# Altium footprint library 6_to_14_Pin.PcbLib: 74 footprints (part 3 of 5)
Each footprint in its own frame and in the unit in brackets; x right, y up, seen from the top. Pads: shape width x height; smd on the part's side, far side on the other; paste and mask are expansions set on the pad; w line width, h text height; cw(c..) or ccw(c..) is an arc to the next point about the centre after c.
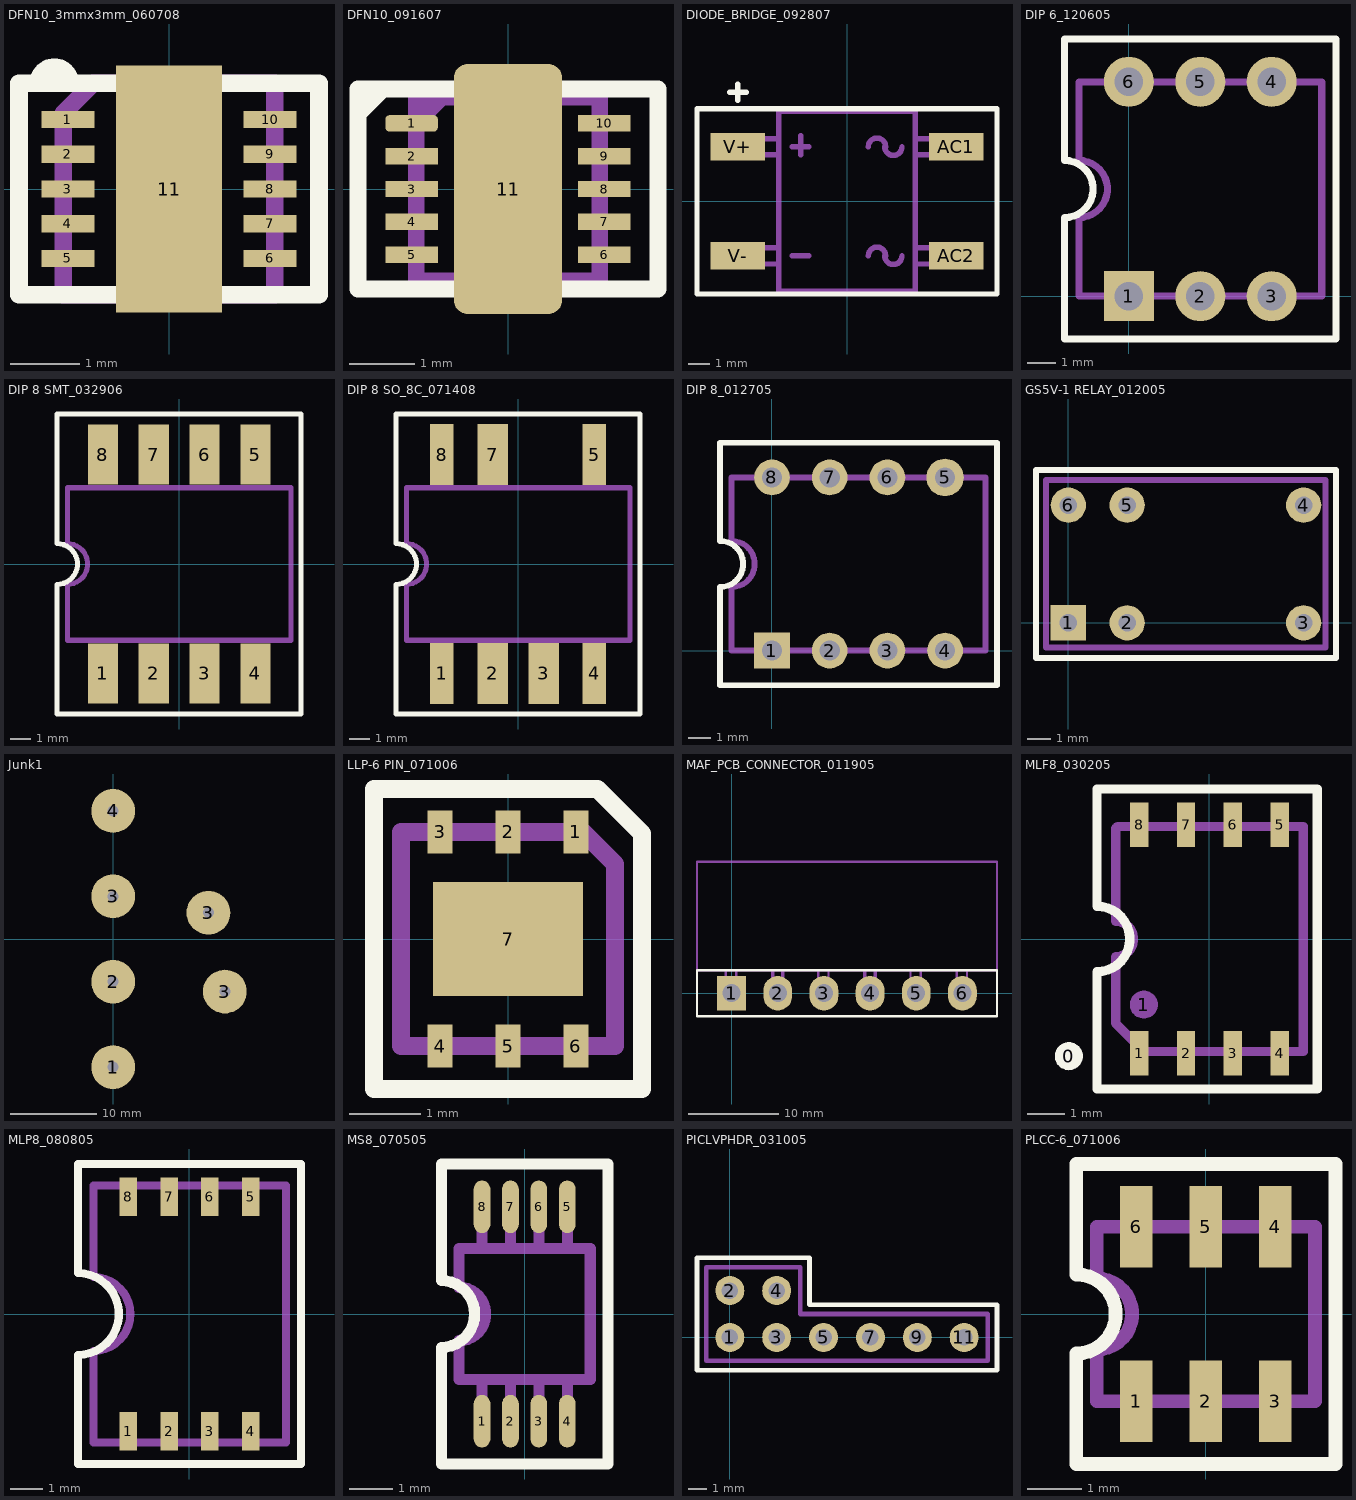
[diagram p2: the footprints below, top view; thin cyan lines are the x and y axes]

## DFN10_3mmx3mm_060708 [mm] "SMT FP"
height 0.762
pads (11):
  rect 0.762x0.25 smd mask+0.038: 1(-1.456,1) 2(-1.456,0.5) 3(-1.456,0) 4(-1.456,-0.5) 5(-1.456,-1) 6(1.456,-1) 7(1.456,-0.5) 8(1.456,0) 9(1.456,0.5) 10(1.456,1)
  rect 1.524x3.556 smd paste-0.559 mask-0.508: 11(0,0)
Top Overlay:
  lines w0.254: -1.88,1.524 cw(c-1.651,1.524) -1.422,1.524 ; -0.381,-1.524 -2.159,-1.524 -2.159,1.524 -0.381,1.524 ; 0.381,-1.524 2.159,-1.524 2.159,1.524 0.381,1.524
Top Solder:
  rectangle: -0.635,-1.295 0.66,1.27
  rectangle: -0.127,1.194 0.127,1.778
  rectangle: -0.127,-1.778 0.127,-1.168
Assembly Outline:
  lines w0.254: -1.524,-1.524 1.524,-1.524 1.524,1.524 -1.092,1.524 -1.524,1.092 -1.524,-1.524
Assembly Designator:
  text ".Designator" at -0.991,1.956 h1.02
Assembly Comment:
  text ".Comment" at -2.794,-2.921 h1.02

## DFN10_091607 [mm] "SMT"
height 0.001
pads (11):
  rrect50% 0.8x0.25 smd mask+0.051: 1(-1.47,1)
  rect 0.8x0.25 smd mask+0.051: 2(-1.47,0.5) 3(-1.47,0) 4(-1.47,-0.5) 5(-1.47,-1) 6(1.47,-1) 7(1.47,-0.5) 8(1.47,0) 9(1.47,0.5) 10(1.47,1)
  rrect25% 1.651x3.81 smd paste-0.203 mask+0.051: 11(0,0)
Top Overlay:
  lines w0.254: -2.286,1.143 -1.905,1.524 ; -2.286,-1.524 2.286,-1.524 2.286,1.524 -2.286,1.524 -2.286,-1.524
Assembly Outline:
  lines w0.254: -1.397,1.016 -1.016,1.397 ; -1.397,-1.397 1.397,-1.397 1.397,1.397 -1.397,1.397 -1.397,-1.397
Assembly Designator:
  text ".Designator" at -1.27,1.905 h1.02
Assembly Comment:
  text ".Comment" at -2.54,-2.794 h1.02

## DIODE_BRIDGE_092807 [mil] "SMT"
height 100
pads (4):
  rect 100x50 smd: AC1(200,100) AC2(200,-100) V+(-200,100) V-(-200,-100)
Top Overlay:
  lines w10: -215,200 -185,200 ; -200,185 -200,215 ; -275,-170 275,-170 275,170 -275,170 -275,-170
Assembly Outline:
  lines w10: -125,-115 -215,-115 -215,-85 -125,-85 ; -125,85 -215,85 -215,115 -125,115 ; -100,-100 -70,-100 ; -100,100 -70,100 ; -85,85 -85,120 ; 39.19,-100 cw(c55,-100) 70.81,-100 ; 39.19,100 cw(c55,100) 70.81,100 ; 69.19,-100 ccw(c85,-100) 100.81,-100 ; 69.19,100 ccw(c85,100) 100.81,100 ; 125,-115 215,-115 215,-85 125,-85 ; 125,85 215,85 215,115 125,115 ; -125,-165 125,-165 125,165 -125,165 -125,-165
Assembly Designator:
  text ".Designator" at -60,-15 h40
Assembly Comment:
  text ".Comment" at -165,-220 h40

## DIP 6_120605 [mil] "TH"
height 160
pads (6):
  rect 70x70 hole 40: 1(0,0)
  round 70 hole 40: 2(100,0) 3(200,0) 4(200,300) 5(100,300) 6(0,300)
Top Overlay:
  lines w10: -90,-60 -90,110 ccw(c-90,150) -90,190 -90,360 0,360 290,360 290,-60 -90,-60
Assembly Outline:
  lines w10: -70,0 -70,110 ccw(c-70,150) -70,190 -70,300 270,300 270,0 -70,0
Assembly Designator:
  text ".Designator" at 54.13,134.84 h40
Assembly Comment:
  text ".Comment" at -36.42,62.01 h40

## DIP 8 SMT_032906 [mm] "TH"
height 3.6
pads (8):
  rect 1.5x3 smd: 1(-3.81,-5.461) 2(-1.27,-5.461) 3(1.27,-5.461) 4(3.81,-5.461) 5(3.81,5.461) 6(1.27,5.461) 7(-1.27,5.461) 8(-3.81,5.461)
Top Overlay:
  lines w0.254: -6.096,-7.493 -6.096,-5.334 -6.096,-1.016 ccw(c-6.096,0) -6.096,1.016 -6.096,5.334 -6.096,7.493 6.096,7.493 6.096,5.334 6.096,-5.334 6.096,-7.493 -6.096,-7.493
Assembly Outline:
  lines w0.254: -5.588,-3.81 3.81,-3.81 5.588,-3.81 5.588,3.81 3.81,3.81 -5.588,3.81 -5.588,1.016 cw(c-5.588,0) -5.588,-1.016 -5.588,-3.81
Assembly Designator:
  text ".Designator" at -2.184,-0.533 h1.02
Assembly Comment:
  text ".Comment" at -4.801,-2.489 h1.02

## DIP 8 SO_8C_071408 [mil] "SMT"
height 145
pads (7):
  rect 46x120 smd: 1(-150,-215) 4(150,-215) 5(150,215) 8(-150,215)
  rect 60x120 smd: 2(-50,-215) 3(50,-215) 7(-50,215)
Top Overlay:
  lines w10: -240,-295 -240,-210 -240,-40 ccw(c-240,0) -240,40 -240,210 -240,295 240,295 240,210 240,-210 240,-295 -240,-295
Assembly Outline:
  lines w10: -220,-150 150,-150 220,-150 220,150 150,150 -220,150 -220,40 cw(c-220,0) -220,-40 -220,-150
Assembly Designator:
  text ".Designator" at -86,-21 h40
Assembly Comment:
  text ".Comment" at -189,-98 h40

## DIP 8_012705 [mil] "TH"
height 160
pads (8):
  rect 62x62 hole 35: 1(0,0)
  round 62 hole 35: 2(100,0) 3(200,0) 4(300,0) 6(200,300) 7(100,300) 8(0,300)
  round 65 hole 35: 5(300,300)
Top Overlay:
  lines w10: -90,-60 390,-60 390,360 0,360 -90,360 -90,190 cw(c-90,150) -90,110 -90,-60
Assembly Outline:
  lines w10: -70,0 300,0 370,0 370,300 300,300 -70,300 -70,190 cw(c-70,150) -70,110 -70,0
Assembly Designator:
  text ".Designator" at 64,129 h40
Assembly Comment:
  text ".Comment" at -39,52 h40

## GS5V-1 RELAY_012005 [mil] "TH"
height 390
pads (6):
  rect 60x60 hole 30: 1(0,0)
  round 60 hole 30: 2(100,0) 3(400,0) 4(400,200) 5(100,200) 6(0,200)
Top Overlay:
  lines w10: -55,-60 455,-60 455,260 120,260 -55,260 -55,-60
Assembly Outline:
  lines w10: -38,-42 437,-42 437,243 -38,243 -38,-42
Assembly Designator:
  text ".Designator" at 149,87 h40
Assembly Comment:
  text ".Comment" at -3,-21 h40

## Junk1 [mil]
pads (6):
  round 200 hole 50: 1(0,-585) 2(0,-195) 3(0,195) 3(435,120) 3(510,-240) 4(0,585)

## LLP-6 PIN_071006 [mm] "SMT"
height 0.8
pads (7):
  rect 0.35x0.6 smd mask+0.03: 1(0.95,1.5) 2(0,1.5) 3(-0.95,1.5) 4(-0.95,-1.5) 5(0,-1.5) 6(0.95,-1.5)
  rect 2.1x1.6 smd: 7(0,0)
Top Overlay:
  lines w0.254: -1.875,-2.1 0,-2.1 1.875,-2.1 1.875,0 1.875,1.475 1.25,2.1 0,2.1 -1.875,2.1 -1.875,0 -1.875,-2.1
Assembly Outline:
  lines w0.254: -1.5,0 -1.5,1.5 ; -1.5,1.5 1.05,1.5 1.5,1.05 1.5,-1.5 -1.5,-1.5 -1.5,1.5
Assembly Designator:
  text ".Designator" at -0.825,-0.525 h1.02
Assembly Comment:
  text ".Comment" at -2.175,-3.475 h1.02

## MAF_PCB_CONNECTOR_011905 [mil] "FEATURE TH PCB"
pads (6):
  rect 125x150 hole 78: 1(0,0)
  oval 125x150 hole 78: 2(200,0) 3(400,0) 4(600,0) 5(800,0) 6(1000,0)
Top Overlay:
  lines w10: -150,-100 1150,-100 1150,100 -150,100 -150,-100
Assembly Outline:
  lines w10: -25,100 -25,0 20,0 20,100 ; 175,100 175,0 220,0 220,100 ; 180,100 180,0 225,0 225,100 ; 575,100 575,0 620,0 620,100 ; 975,100 975,0 1020,0 1020,100 ; 375,0 375,100 375,0 ; 375,0 420,0 ; 375,0 420,0 ; 420,0 420,100 420,0 ; 580,0 580,100 580,0 ; 580,0 625,0 ; 580,0 625,0 ; 625,0 625,100 625,0 ; 775,0 775,100 ; 775,0 820,0 ; 775,0 775,100 ; 775,0 820,0 ; 775,0 775,100 ; 775,0 820,0 ; 820,0 820,100 ; 820,0 820,100 ; 820,0 820,100 ; -150,100 -150,570 1150,570 1150,100 -150,100
Assembly Designator:
  text ".Designator" at 445,-114 h40
Assembly Comment:
  text ".Comment" at 496,120 h40

## MLF8_030205 [mm] "SMT"
height 1.016
pads (10):
  round 0.762 on Top Overlay paste+0 mask+0.051: 0(-3.81,-3.175)
  rect 0.5x1.2 smd paste+0 mask+0.051: 1(-1.905,-3.099) 2(-0.635,-3.099) 3(0.635,-3.099) 4(1.905,-3.099) 5(1.905,3.099) 6(0.635,3.099) 7(-0.635,3.099) 8(-1.905,3.099)
  round 0.762 on Mech1 paste+0 mask+0.051: 1(-1.778,-1.778)
Top Overlay:
  lines w0.254: -3.048,-4.064 -3.048,-0.889 ccw(c-3.048,0) -3.048,0.889 -3.048,4.064 2.921,4.064 2.921,-4.064 -2.54,-4.064 -3.048,-4.064
Assembly Outline:
  lines w0.254: -2.54,-2.286 -1.778,-3.048 2.54,-3.048 2.54,3.048 -2.489,3.048 -2.54,2.997 -2.54,0.483 cw(c-2.54,0) -2.54,-0.483 -2.54,-2.286
Assembly Designator:
  text ".Designator" at 0.432,-1.168 h1.02
Assembly Comment:
  text ".Comment" at 2.108,-2.54 h1.02

## MLP8_080805 [mm] "SMT"
height 1.016
pads (8):
  rect 0.55x1.2 smd mask+0.051: 1(-1.905,-3.658) 2(-0.635,-3.658) 3(0.635,-3.658) 4(1.905,-3.658) 5(1.905,3.658) 6(0.635,3.658) 7(-0.635,3.658) 8(-1.905,3.658)
Top Overlay:
  lines w0.254: -3.475,-4.675 -3.475,-1.275 ccw(c-3.475,0) -3.475,1.275 -3.475,4.675 0,4.675 3.475,4.675 3.475,0 3.475,-4.675 0,-4.675 -3.475,-4.675
Assembly Outline:
  lines w0.254: 0.006,-4 -2.994,-4 ; -2.994,-4 3.006,-4 3.006,4 -2.994,4 -2.994,1.15 cw(c-2.994,0) -2.994,-1.15 -2.994,-4
Assembly Designator:
  text ".Designator" at -0.95,-0.475 h1.02
Assembly Comment:
  text ".Comment" at -2.6,-2.5 h1.02

## MS8_070505 [mm] "SMT"
height 0.889
pads (8):
  oval 0.38x1.2 smd mask+0.038: 1(-0.975,-2.45) 2(-0.325,-2.45) 3(0.325,-2.45) 4(0.975,-2.45) 5(0.975,2.45) 6(0.325,2.45) 7(-0.325,2.45) 8(-0.975,2.45)
Top Overlay:
  lines w0.254: -1.905,-3.429 1.905,-3.429 1.905,0 1.905,3.429 -1.905,3.429 -1.905,0.762 cw(c-1.905,0) -1.143,0 cw(c-1.905,0) -1.905,-0.762 -1.905,-3.429
Assembly Outline:
  lines w0.254: -0.975,-2.45 -0.975,-1.5 ; -0.975,1.5 -0.975,2.45 ; -0.325,-2.45 -0.325,-1.5 ; -0.325,1.5 -0.325,2.45 ; 0.325,-2.45 0.325,-1.5 ; 0.325,1.5 0.325,2.45 ; 0.975,-2.45 0.975,-1.5 ; 0.975,1.5 0.975,2.45 ; -1.5,-1.5 1.5,-1.5 1.5,1.5 -1.5,1.5 -1.5,0.611 cw(c-1.5,0) -1.5,-0.611 -1.5,-1.5
Assembly Designator:
  text ".Designator" at -0.508,-0.381 h1.02
Assembly Comment:
  text ".Comment" at -1.778,-4.826 h1.02

## PICLVPHDR_031005 [mil] "FEATURE SMT PCB"
pads (8):
  round 62 hole 35: 1(0,0) 2(0,100) 3(100,0) 4(100,100) 5(200,0) 7(300,0) 9(400,0) 11(500,0)
Top Overlay:
  lines w10: -70,-70 570,-70 570,70 170,70 170,170 140,170 -70,170 -70,-70
Assembly Outline:
  lines w8: -12,-12 -12,13 13,13 13,-12 -12,-12 ; -12,88 -12,113 13,113 13,88 -12,88 ; 88,-12 88,13 113,13 113,-12 88,-12 ; 88,88 88,113 113,113 113,88 88,88 ; 188,-12 188,13 213,13 213,-12 188,-12 ; 288,-12 288,13 313,13 313,-12 288,-12 ; 388,-12 388,13 413,13 413,-12 388,-12 ; 488,-12 488,13 513,13 513,-12 488,-12
  lines w10: -50,-50 550,-50 550,50 150,50 150,150 0,150 -50,150 -50,-50
Assembly Designator:
  text ".Designator" at -4,33 h40
Assembly Comment:
  text ".Comment" at 192,87 h40

## PLCC-6_071006 [mm] "SMT"
height 1.1
pads (6):
  rect 0.6x1.5 smd: 1(-1.275,-1.6) 2(0,-1.6) 3(1.275,-1.6) 4(1.275,1.6) 5(0,1.6) 6(-1.275,1.6)
Top Overlay:
  lines w0.254: -2.375,-2.75 -2.375,-0.725 ccw(c-2.375,0) -2.375,0.725 -2.375,1.738 -2.375,2.75 0,2.75 2.375,2.75 2.375,0 2.375,-2.75 0,-2.75 -2.375,-2.75
Assembly Outline:
  lines w0.254: 0,1.6 -2,1.6 ; -2,1.6 -2,0.65 cw(c-2,0) -2,-0.65 -2,-1.6 2,-1.6 2,1.6 -2,1.6
Assembly Designator:
  text ".Designator" at -1.05,-0.425 h1.02
Assembly Comment:
  text ".Comment" at -2.525,-4.15 h1.02